# EAGLE library part W2-USB (library FHD-Connectors)
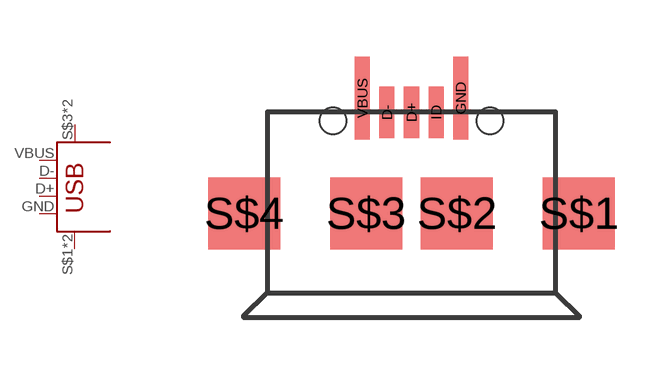
[diagram p0: symbol with the pads of M-USB-W2; footprint M-USB-W2]

Designator prefix -

## W2-USB  [M-USB-W2]
D+  D+
D-  D-
GND  GND
S$1  S1
S$2  S1
S$3  S2
S$4  S2
VBUS  VBUS

## Footprint M-USB-W2 (pad centres in mm)
smd 0.4 x 1.35: D+ 0,4.125; D- -0.65,4.125; ID 0.65,4.125
smd 0.4 x 2.2: GND 1.3,4.5; VBUS -1.3,4.5
smd 1.9 x 1.9: S$1 4.425,1.45; S$2 1.2,1.45; S$3 -1.2,1.45; S$4 -4.425,1.45
hole 0.7 at -2.075,3.9
hole 0.7 at 2.075,3.9